# EAGLE library part MCP3427 (library NASA_LIB)
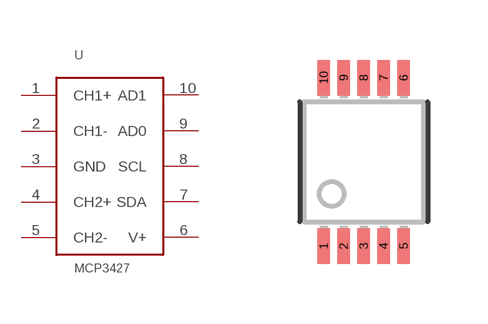
[diagram p16: symbol with the pads of MSOP-10; footprint MSOP-10]

Designator prefix -

## MCP3427  [MSOP-10]
1  CH1+
2  CH1-
3  GND
4  CH2+
5  CH2-
6  V+
7  SDA
8  SCL
9  AD0
10  AD1

## Footprint MSOP-10 (pad centres in mm)
smd 0.305 x 0.889: 1 -1,-2.11; 2 -0.5,-2.11; 3 0,-2.11; 4 0.5,-2.11; 5 1,-2.11; 6 1,2.11; 7 0.5,2.11; 8 0,2.11; 9 -0.5,2.11; 10 -1,2.11